# Altium schematic symbol library PIC18F45K50-IP.SchLib: 1 symbol
Pins are listed as number, name and electrical type; pins without a type are passive.

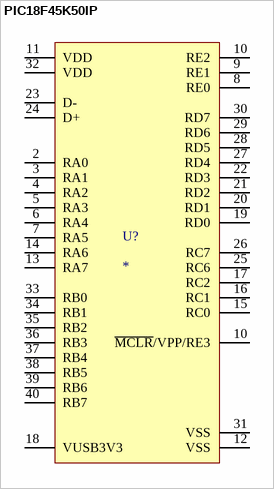
[diagram p0: symbol PIC18F45K50IP]

## PIC18F45K50IP
designator U?
pins: 2 RA0, 3 RA1, 4 RA2, 5 RA3, 6 RA4, 7 RA5, 8 RE0, 9 RE1, 10 ~{MCLR}/VPP/RE3, 10 RE2, 11 VDD, 12 VSS, 13 RA7, 14 RA6, 15 RC0, 16 RC1, 17 RC2, 18 VUSB3V3, 19 RD0, 20 RD1, 21 RD2, 22 RD3, 23 D-, 24 D+, 25 RC6, 26 RC7, 27 RD4, 28 RD5, 29 RD6, 30 RD7, 31 VSS, 32 VDD, 33 RB0, 34 RB1, 35 RB2, 36 RB3, 37 RB4, 38 RB5, 39 RB6, 40 RB7